# Altium footprint library iot_watch.PcbLib: 10 footprints
Each footprint in its own frame and in the unit in brackets; x right, y up, seen from the top. Pads: shape width x height; smd on the part's side, far side on the other; paste and mask are expansions set on the pad; w line width, h text height; cw(c..) or ccw(c..) is an arc to the next point about the centre after c.
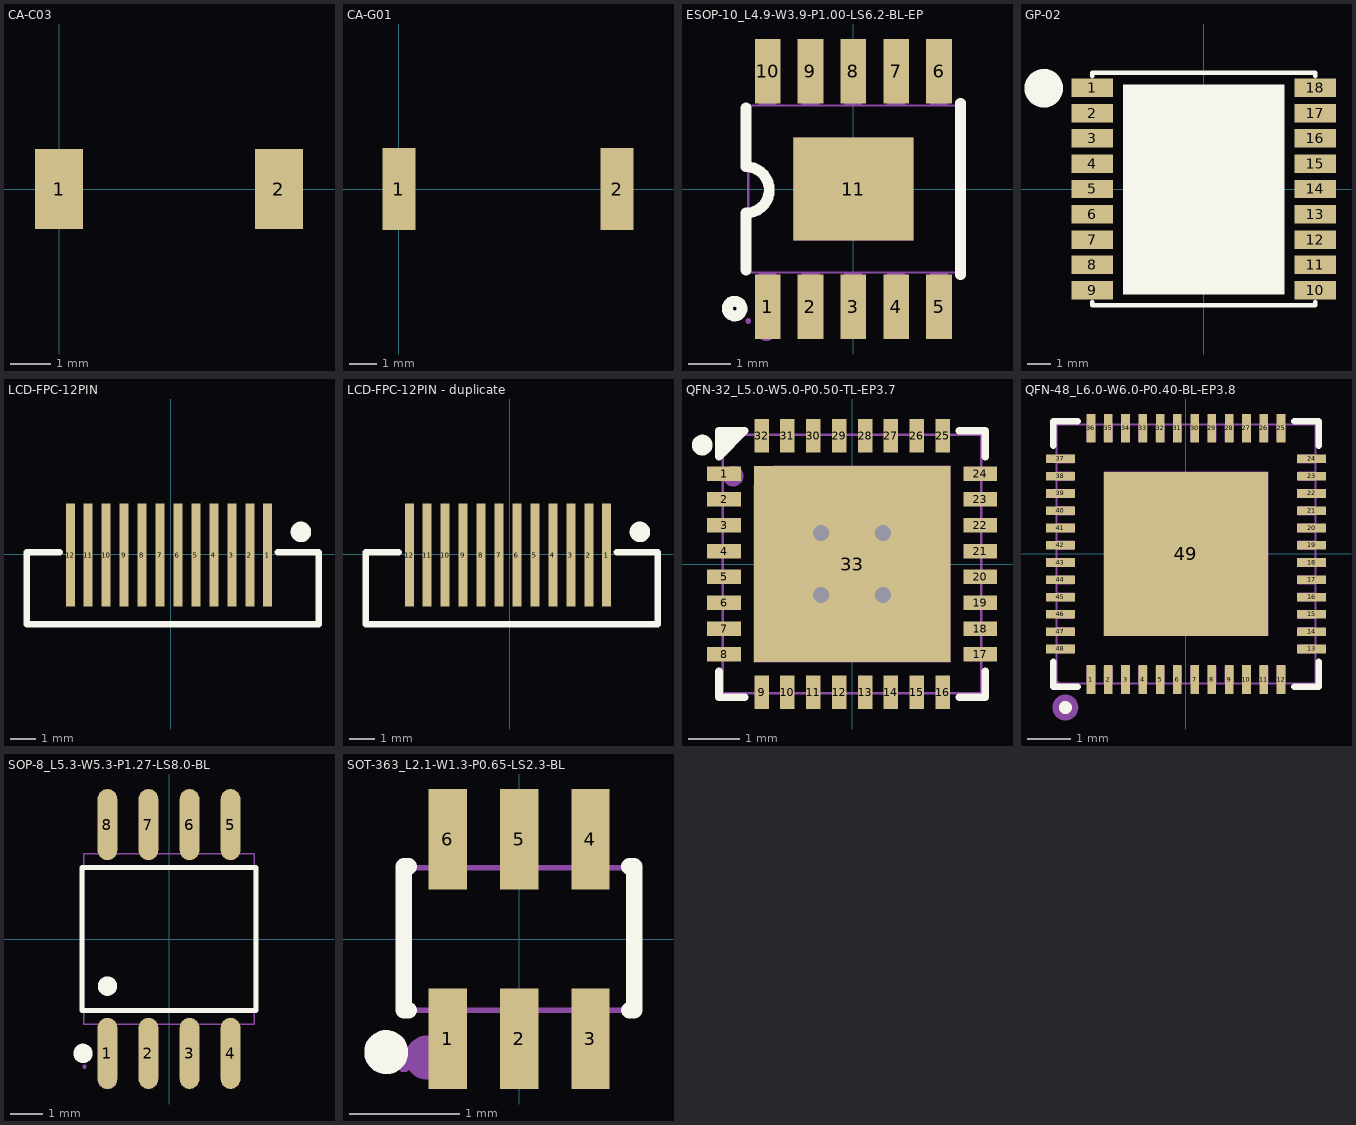
[diagram p0: the footprints below, top view; thin cyan lines are the x and y axes]

## CA-C03 [mm]
pads (2):
  rect 1.2x2 smd: 1(0,0) 2(5.5,0)

## CA-G01 [mm]
pads (2):
  rect 1.2x3 smd: 1(0,0) 2(8,0)

## ESOP-10_L4.9-W3.9-P1.00-LS6.2-BL-EP [mm]
pads (11):
  rect 0.6x1.5 smd: 1(-2,-2.75) 2(-1,-2.75) 3(0,-2.75) 4(1,-2.75) 5(2,-2.75) 6(2,2.75) 7(1,2.75) 8(0,2.75) 9(-1,2.75) 10(-2,2.75)
  rect 2.8x2.4 smd: 11(0,0)
Top Overlay:
  circle w0.254: c-2.77,-2.79 r0.171
  lines w0.254: -2.5,-1.887 -2.5,-0.564 ; -2.501,-0.563 ccw(c-2.504,-0.022) -2.5,0.52 -2.5,1.887 ; 2.5,-2 2.5,2
Mechanical 6:
  circle w0.2: c-2.03,-3.35 r0.1
Mechanical 15:
  region: -2.39,-3.08 -2.39,-3.055 -2.425,-3.02 -2.475,-3.02 -2.51,-3.055 -2.51,-3.08 -2.51,-3.105 -2.475,-3.14 -2.425,-3.14 -2.39,-3.105
  region: 2.2,-2.58 1.794,-2.58 1.794,-1.935 2.2,-1.935
  region: 2.2,-3.07 1.794,-3.07 1.794,-2.57 2.2,-2.57
  region: 1.2,-2.58 0.794,-2.58 0.794,-1.935 1.2,-1.935
  region: 1.203,-3.07 0.797,-3.07 0.797,-2.57 1.203,-2.57
  region: 0.2,-2.58 -0.206,-2.58 -0.206,-1.935 0.2,-1.935
  region: 0.203,-3.07 -0.203,-3.07 -0.203,-2.57 0.203,-2.57
  region: -0.8,-2.58 -1.206,-2.58 -1.206,-1.935 -0.8,-1.935
  region: -0.8,-3.07 -1.206,-3.07 -1.206,-2.57 -0.8,-2.57
  region: -1.8,-2.58 -2.206,-2.58 -2.206,-1.935 -1.8,-1.935
  region: -1.797,-3.07 -2.203,-3.07 -2.203,-2.57 -1.797,-2.57
  region: -1.8,1.94 -2.206,1.94 -2.206,2.585 -1.8,2.585
  region: -1.8,2.58 -2.206,2.58 -2.206,3.08 -1.8,3.08
  region: -0.8,1.94 -1.206,1.94 -1.206,2.585 -0.8,2.585
  region: -0.797,2.58 -1.203,2.58 -1.203,3.08 -0.797,3.08
  region: 0.2,1.94 -0.206,1.94 -0.206,2.585 0.2,2.585
  region: 0.203,2.58 -0.203,2.58 -0.203,3.08 0.203,3.08
  region: 1.2,1.94 0.794,1.94 0.794,2.585 1.2,2.585
  region: 1.203,2.58 0.797,2.58 0.797,3.08 1.203,3.08
  region: 2.2,1.94 1.794,1.94 1.794,2.585 2.2,2.585
  region: 2.203,2.58 1.797,2.58 1.797,3.08 2.203,3.08
  region: 1.4,-1.2 -1.4,-1.2 -1.4,1.2 1.4,1.2
  lines w0.051: -2.45,-1.95 2.45,-1.95 2.45,1.95 -2.45,1.95 -2.45,-1.95

## GP-02 [mm]
pads (18):
  rect 1.8x0.8 smd: 1(-4.85,4.4) 2(-4.85,3.3) 3(-4.85,2.2) 4(-4.85,1.1) 5(-4.85,0) 6(-4.85,-1.1) 7(-4.85,-2.2) 8(-4.85,-3.3) 9(-4.85,-4.4) 10(4.85,-4.4) 11(4.85,-3.3) 12(4.85,-2.2) 13(4.85,-1.1) 14(4.85,0) 15(4.85,1.1) 16(4.85,2.2) 17(4.85,3.3) 18(4.85,4.4)
Top Overlay:
  circle w1: c-6.952,4.38 r0.336
  region: 3.502,4.549 -3.499,4.549 -3.499,-4.584 3.502,-4.584
  lines w0.203: -4.85,-4.911 -4.85,-5.05 4.85,-5.05 4.85,-4.911 ; -4.85,4.911 -4.85,5.05 4.85,5.05 4.85,4.911

## LCD-FPC-12PIN [mm]
pads (12):
  rect 0.35x4 smd: 1(3.775,-0.03) 2(3.076,-0.03) 3(2.375,-0.03) 4(1.678,-0.03) 5(0.976,-0.03) 6(0.276,-0.03) 7(-0.424,-0.03) 8(-1.125,-0.03) 9(-1.823,-0.03) 10(-2.524,-0.03) 11(-3.224,-0.03) 12(-3.921,-0.03)
Top Overlay:
  circle w0.4: c5.072,0.871 r0.2
  lines w0.254: -4.327,0.07 -5.628,0.07 -5.628,-2.729 5.772,-2.729 5.772,0.07 4.172,0.07

## LCD-FPC-12PIN - duplicate [mm]
pads (12):
  rect 0.35x4 smd: 1(3.775,-0.03) 2(3.076,-0.03) 3(2.375,-0.03) 4(1.678,-0.03) 5(0.976,-0.03) 6(0.276,-0.03) 7(-0.424,-0.03) 8(-1.125,-0.03) 9(-1.823,-0.03) 10(-2.524,-0.03) 11(-3.224,-0.03) 12(-3.921,-0.03)
Top Overlay:
  circle w0.4: c5.072,0.871 r0.2
  lines w0.254: -4.327,0.07 -5.628,0.07 -5.628,-2.729 5.772,-2.729 5.772,0.07 4.172,0.07

## QFN-32_L5.0-W5.0-P0.50-TL-EP3.7 [mm]
pads (33):
  rect 0.65x0.28 smd paste-100 mask+0.051: 1(-2.478,1.75) 2(-2.478,1.25) 3(-2.478,0.75) 4(-2.478,0.25) 5(-2.478,-0.25) 6(-2.478,-0.75) 7(-2.478,-1.25) 8(-2.478,-1.75) 17(2.478,-1.75) 18(2.478,-1.25) 19(2.478,-0.75) 20(2.478,-0.25) 21(2.478,0.25) 22(2.478,0.75) 23(2.478,1.25) 24(2.478,1.75)
  rect 0.28x0.65 smd paste-100 mask+0.051: 9(-1.75,-2.478) 10(-1.25,-2.478) 11(-0.75,-2.478) 12(-0.25,-2.478) 13(0.25,-2.478) 14(0.75,-2.478) 15(1.25,-2.478) 16(1.75,-2.478) 25(1.75,2.478) 26(1.25,2.478) 27(0.75,2.478) 28(0.25,2.478) 29(-0.25,2.478) 30(-0.75,2.478) 31(-1.25,2.478) 32(-1.75,2.478)
  rect 3.8x3.8 smd paste-100 mask+0.051: 33(0,0)
via 0.6,-0.6 diameter 0.61 hole 0.305
via -0.6,-0.6 diameter 0.61 hole 0.305
via -0.6,0.6 diameter 0.61 hole 0.305
via 0.6,0.6 diameter 0.61 hole 0.305
Top Overlay:
  circle w0.2: c-2.9,2.3 r0.1
  region: -2.1,2.576 -2.1,2.557 -2.576,2.08 -2.576,2.5
  lines w0.152: -2.576,-2.08 -2.576,-2.576 -2.08,-2.576 ; 2.08,-2.576 2.576,-2.576 2.576,-2.08 ; 2.08,2.576 2.576,2.576 2.576,2.08 ; -2.576,2.08 -2.576,2.576 -2.08,2.576 -2.576,2.08
Top Paste:
  drawing of 33 lines, arcs and shapes, not listed
Mechanical 6:
  circle w0.2: c-2.3,1.7 r0.1
Mechanical 15:
  drawing of 38 lines, arcs and shapes, not listed

## QFN-48_L6.0-W6.0-P0.40-BL-EP3.8 [mm]
pads (49):
  rect 0.2x0.665 smd paste-100 mask+0.051: 1(-2.2,-2.908) 2(-1.8,-2.908) 3(-1.4,-2.908) 4(-1,-2.908) 5(-0.6,-2.908) 6(-0.2,-2.908) 7(0.2,-2.908) 8(0.6,-2.908) 9(1,-2.908) 10(1.4,-2.908) 11(1.8,-2.908) 12(2.2,-2.908) 25(2.2,2.908) 26(1.8,2.908) 27(1.4,2.908) 28(1,2.908) 29(0.6,2.908) 30(0.2,2.908) 31(-0.2,2.908) 32(-0.6,2.908) 33(-1,2.908) 34(-1.4,2.908) 35(-1.8,2.908) 36(-2.2,2.908)
  rect 0.665x0.2 smd paste-100 mask+0.051: 13(2.908,-2.2) 14(2.908,-1.8) 15(2.908,-1.4) 16(2.908,-1) 17(2.908,-0.6) 18(2.908,-0.2) 19(2.908,0.2) 20(2.908,0.6) 21(2.908,1) 22(2.908,1.4) 23(2.908,1.8) 24(2.908,2.2) 37(-2.908,2.2) 38(-2.908,1.8) 39(-2.908,1.4) 40(-2.908,1) 41(-2.908,0.6) 42(-2.908,0.2) 43(-2.908,-0.2) 44(-2.908,-0.6) 45(-2.908,-1) 46(-2.908,-1.4) 47(-2.908,-1.8) 48(-2.908,-2.2)
  rect 3.8x3.8 smd paste-100 mask+0.051: 49(0,0)
Top Overlay:
  circle w0.15: c-2.794,-3.556 r0.075
  lines w0.152: -3.076,-2.503 -3.076,-3.076 -2.503,-3.076 ; -3.076,2.503 -3.076,3.076 -2.503,3.076 ; 2.503,-3.076 3.076,-3.076 3.076,-2.503 ; 2.503,3.076 3.076,3.076 3.076,2.503
Top Paste:
  drawing of 49 lines, arcs and shapes, not listed
Mechanical 6:
  circle w0.3: c-2.794,-3.556 r0.15
Mechanical 15:
  drawing of 54 lines, arcs and shapes, not listed

## SOP-8_L5.3-W5.3-P1.27-LS8.0-BL [mm]
pads (8):
  oval 0.609x2.204 smd: 1(-1.905,-3.542) 2(-0.635,-3.542) 3(0.635,-3.542) 4(1.905,-3.542) 5(1.905,3.542) 6(0.635,3.542) 7(-0.635,3.542) 8(-1.905,3.542)
Top Overlay:
  circle w0.3: c-1.905,-1.459 r0.15
  circle w0.3: c-2.662,-3.542 r0.15
  lines w0.152: -2.691,-2.211 -2.691,2.211 2.691,2.211 2.691,-2.211 -2.691,-2.211
Mechanical 6:
  circle w0.3: c-1.905,-4.35 r0.15
Mechanical 15:
  region: -2.555,-3.95 -2.555,-3.925 -2.59,-3.89 -2.64,-3.89 -2.675,-3.925 -2.675,-3.95 -2.675,-3.975 -2.64,-4.01 -2.59,-4.01 -2.555,-3.975
  region: -2.123,-3.95 -2.123,-3.3 -1.687,-3.3 -1.687,-3.95
  region: -2.123,-3.31 -2.123,-2.63 -1.687,-2.63 -1.687,-3.31
  region: -0.853,-3.95 -0.853,-3.3 -0.417,-3.3 -0.417,-3.95
  region: -0.853,-3.31 -0.853,-2.63 -0.417,-2.63 -0.417,-3.31
  region: 0.417,-3.95 0.417,-3.3 0.853,-3.3 0.853,-3.95
  region: 0.417,-3.31 0.417,-2.63 0.853,-2.63 0.853,-3.31
  region: 1.687,-3.95 1.687,-3.3 2.123,-3.3 2.123,-3.95
  region: 1.687,-3.31 1.687,-2.63 2.123,-2.63 2.123,-3.31
  region: -2.123,3.95 -2.123,3.3 -1.687,3.3 -1.687,3.95
  region: -2.123,3.31 -2.123,2.63 -1.687,2.63 -1.687,3.31
  region: -0.853,3.95 -0.853,3.3 -0.417,3.3 -0.417,3.95
  region: -0.853,3.31 -0.853,2.63 -0.417,2.63 -0.417,3.31
  region: 0.417,3.95 0.417,3.3 0.853,3.3 0.853,3.95
  region: 0.417,3.31 0.417,2.63 0.853,2.63 0.853,3.31
  region: 1.687,3.95 1.687,3.3 2.123,3.3 2.123,3.95
  region: 1.687,3.31 1.687,2.63 2.123,2.63 2.123,3.31
  lines w0.051: -2.64,-2.64 -2.64,2.64 2.64,2.64 2.64,-2.64 -2.64,-2.64

## SOT-363_L2.1-W1.3-P0.65-LS2.3-BL [mm]
pads (6):
  rect 0.35x0.916 smd: 1(-0.65,-0.908) 2(0,-0.908) 3(0.65,-0.908) 4(0.65,0.908) 5(0,0.908) 6(-0.65,0.908)
Top Overlay:
  circle w0.2: c-1.21,-1.03 r0.1
  lines w0.152: -1.05,0.66 -1.05,-0.65 -1.005,-0.65 ; -1.04,0.66 -1.005,0.66 ; 1.005,-0.65 1.05,-0.65 1.05,0.66 1.005,0.66
Mechanical 6:
  circle w0.2: c-0.84,-1.08 r0.1
Mechanical 15:
  region: -0.99,-1.15 -0.99,-1.125 -1.025,-1.09 -1.075,-1.09 -1.11,-1.125 -1.11,-1.15 -1.11,-1.175 -1.075,-1.21 -1.025,-1.21 -0.99,-1.175 -0.99,-1.15
  region: -0.525,-1.15 -0.525,-0.79 -0.775,-0.79 -0.775,-1.15
  region: -0.525,-0.8 -0.525,-0.64 -0.775,-0.64 -0.775,-0.8
  region: 0.125,-1.15 0.125,-0.79 -0.125,-0.79 -0.125,-1.15
  region: 0.125,-0.8 0.125,-0.64 -0.125,-0.64 -0.125,-0.8
  region: 0.775,-1.15 0.775,-0.79 0.525,-0.79 0.525,-1.15
  region: 0.775,-0.8 0.775,-0.64 0.525,-0.64 0.525,-0.8
  region: 0.775,1.15 0.775,0.79 0.525,0.79 0.525,1.15
  region: 0.775,0.8 0.775,0.64 0.525,0.64 0.525,0.8
  region: 0.125,1.15 0.125,0.79 -0.125,0.79 -0.125,1.15
  region: 0.125,0.8 0.125,0.64 -0.125,0.64 -0.125,0.8
  region: -0.525,1.15 -0.525,0.79 -0.775,0.79 -0.775,1.15
  region: -0.525,0.8 -0.525,0.64 -0.775,0.64 -0.775,0.8
  lines w0.051: -1.05,-0.65 -1.05,0.65 1.05,0.65 1.05,-0.65 -1.05,-0.65